# EAGLE library part FT231XQ-R (library FT231XQ-R)
FTDI Chip FT231XQ-R, USB Transceiver Source: Datasheet <http://www.ftdichip.com/Support/Documents/DataSheets/ICs/DS_FT231X.pdf>
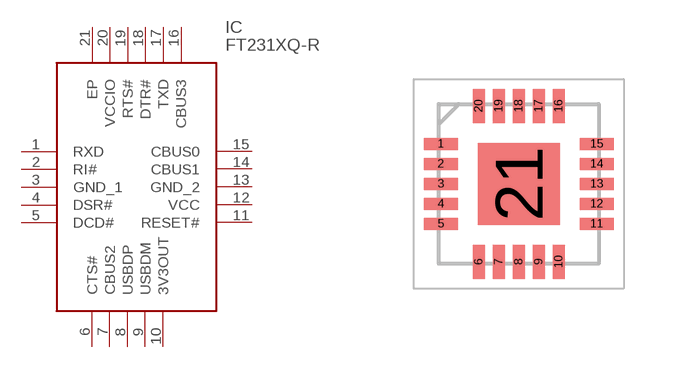
[diagram p0: symbol with the pads of QFN50P400X400X80-21N; footprint QFN50P400X400X80-21N]

Designator prefix IC

## FT231XQ-R (Arrow_Part_Number: FT231XQ-R; Arrow_Price-Stock: https://www.arrow.com/en/products/ft231xq-r/ftdi-chip?region=nac; Description: FTDI Chip FT231XQ-R, USB Transceiver; Height: 0.8mm; Manufacturer_Name: FTDI Chip; Manufacturer_Part_Number: FT231XQ-R; Mouser_Part_Number: 895-FT231XQ-R; Mouser_Price-Stock: https://www.mouser.co.uk/ProductDetail/FTDI/FT231XQ-R?qs=Gp1Yz1mis3VkAf3iW%252BkumQ%3D%3D)  [QFN50P400X400X80-21N]
1  RXD
2  RI#
3  GND_1
4  DSR#
5  DCD#
6  CTS#
7  CBUS2
8  USBDP
9  USBDM
10  3V3OUT
11  RESET#
12  VCC
13  GND_2
14  CBUS1
15  CBUS0
16  CBUS3
17  TXD
18  DTR#
19  RTS#
20  VCCIO
21  EP

## Footprint QFN50P400X400X80-21N (pad centres in mm)
QFN-20
smd 0.85 x 0.3: 1 -1.95,1; 2 -1.95,0.5; 3 -1.95,0; 4 -1.95,-0.5; 5 -1.95,-1; 11 1.95,-1; 12 1.95,-0.5; 13 1.95,0; 14 1.95,0.5; 15 1.95,1
smd 0.3 x 0.85: 6 -1,-1.95; 7 -0.5,-1.95; 8 0,-1.95; 9 0.5,-1.95; 10 1,-1.95; 16 1,1.95; 17 0.5,1.95; 18 0,1.95; 19 -0.5,1.95; 20 -1,1.95
smd 2.05 x 2.05: 21 0,0